# Altium footprint library PCB Library.PcbLib: 45 footprints (part 1 of 3)
Each footprint in its own frame and in the unit in brackets; x right, y up, seen from the top. Pads: shape width x height; smd on the part's side, far side on the other; paste and mask are expansions set on the pad; w line width, h text height; cw(c..) or ccw(c..) is an arc to the next point about the centre after c.
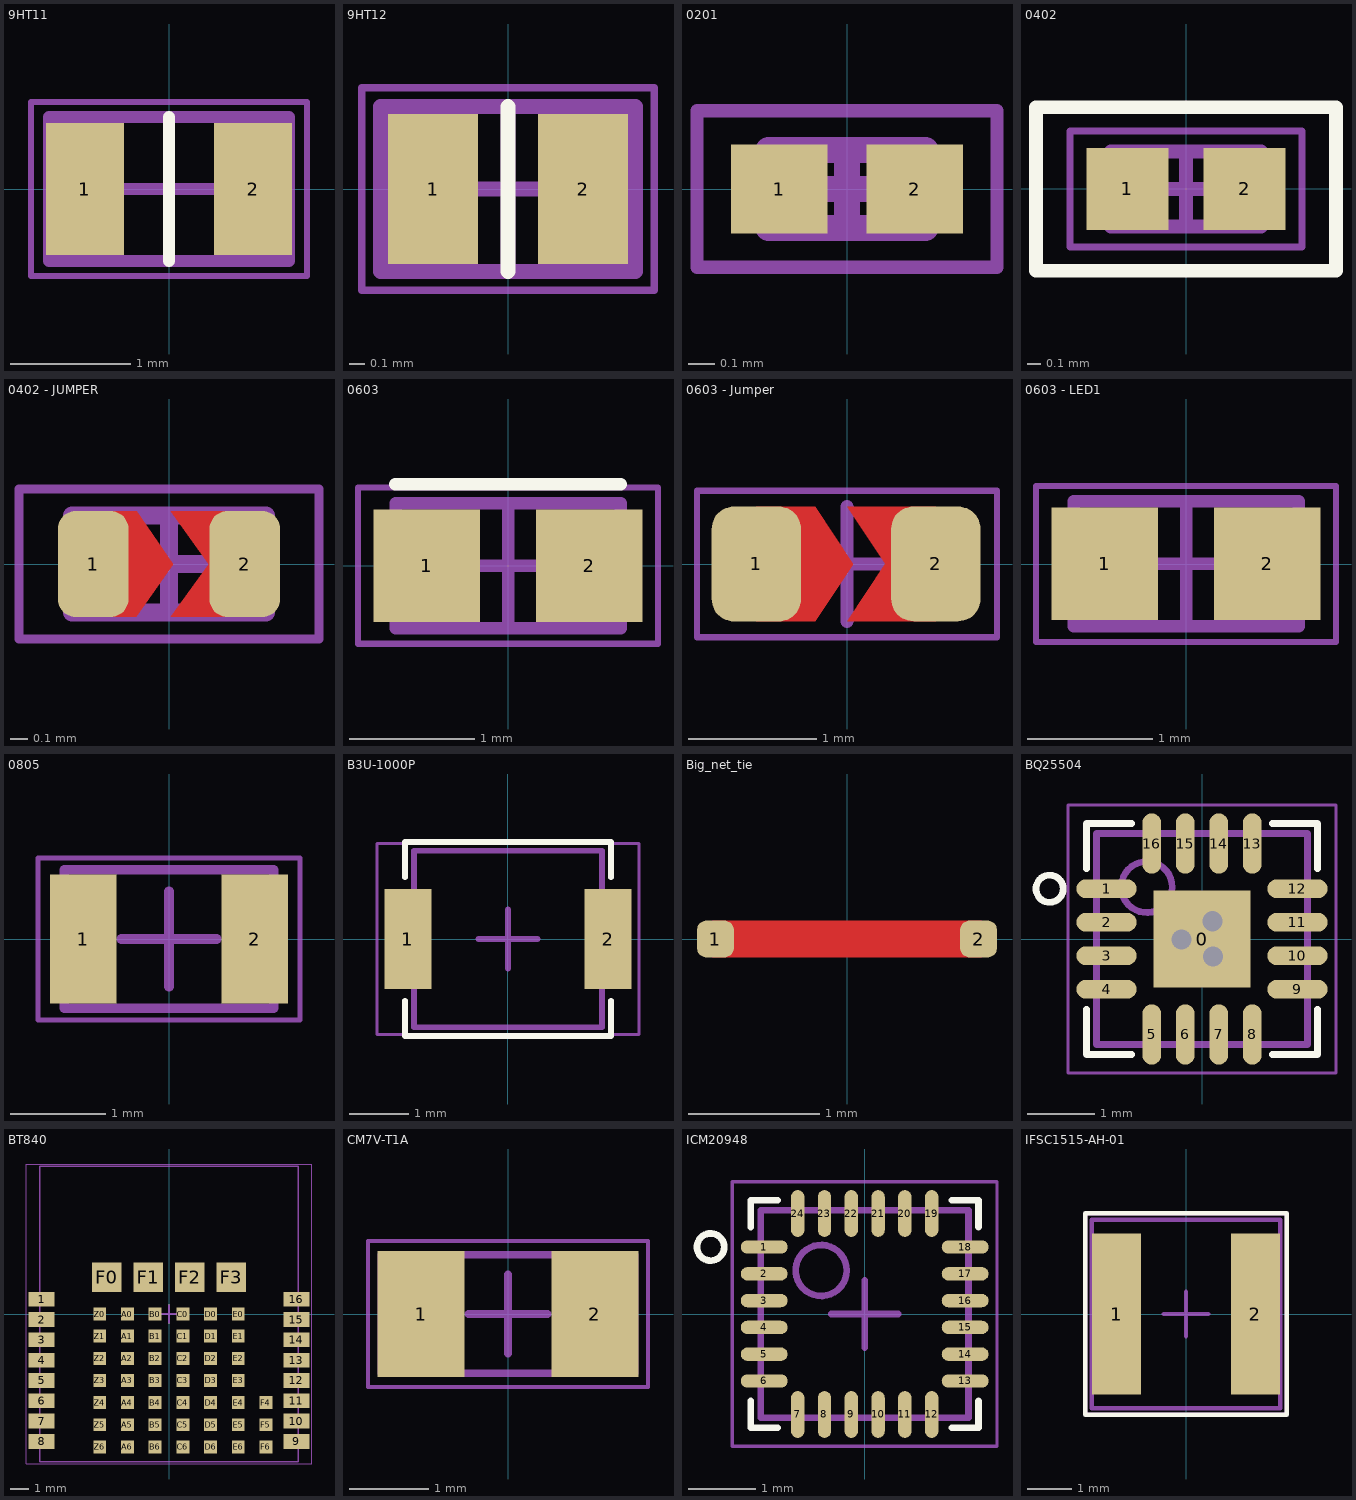
[diagram p0: the footprints below, top view; thin cyan lines are the x and y axes]

## 9HT11 [mm] "Qartz crystal 9HT11-32.768KDZY-T"
height 0.6
pads (2):
  rect 0.65x1.1 smd mask+0.05: 1(-0.7,0) 2(0.7,0)
Top Overlay:
  lines w0.1: 0,-0.6 0,0.6
Mechanical 13:
  lines w0.1: -1,-0.6 -1,0.6 1,0.6 1,-0.6 -1,-0.6
Mechanical 15:
  lines w0.05: -1.15,-0.725 -1.15,0.725 1.15,0.725 1.15,-0.725 -1.15,-0.725
  lines w0.1: -0.5,0 0.5,0 ; 0,-0.5 0,0.5
3D body: height 0.5, standoff 0, extent -1,-0.6 1,0.6

## 9HT12 [mm] "Qartz crystal"
height 0.5
pads (2):
  rect 0.6x1 smd mask+0.05: 1(-0.5,0) 2(0.5,0)
Top Overlay:
  lines w0.1: 0,-0.55 0,0.55
Mechanical 13:
  lines w0.1: -0.85,-0.55 0.85,-0.55 0.85,0.55 -0.85,0.55 -0.85,-0.55
Mechanical 15:
  lines w0.05: -0.975,-0.675 0.975,-0.675 0.975,0.675 -0.975,0.675 -0.975,-0.675
  lines w0.1: -0.5,0 0.5,0 ; 0,-0.5 0,0.5
3D body: height 0.5, standoff 0, extent -0.85,-0.55 0.85,0.55

## 0201 [mm] "Standard SMD component"
height 0.22
pads (2):
  rect 0.37x0.34 smd mask+0.05: 1(-0.26,0) 2(0.26,0)
Top Solder:
  rectangle: -0.5,-0.225 0.5,0.225
Mechanical 13:
  lines w0.1: -0.3,-0.15 0.3,-0.15 0.3,0.15 -0.3,0.15 -0.3,-0.15
Mechanical 15:
  lines w0.05: -0.575,-0.3 0.575,-0.3 0.575,0.3 -0.575,0.3 -0.575,-0.3
  lines w0.1: -0.15,0 0.15,0 ; 0,-0.15 0,0.15
3D body: height 0.22, standoff 0, extent 0.15,-0.15 0.3,0.15
3D body: height 0.22, standoff 0, extent -0.3,-0.15 -0.15,0.15
3D body: height 0.22, standoff 0, extent -0.15,-0.15 0.15,0.15

## 0402 [mm] "Standard SMD component"
height 0.55
pads (2):
  rect 0.6x0.6 smd mask+0.05: 1(-0.43,0) 2(0.43,0)
Top Overlay:
  lines w0.1: -1.1,-0.6 -0.675,-0.6 0,-0.6 1.1,-0.6 1.1,0.25 1.1,0.6 0.675,0.6 0,0.6 -1.1,0.6 -1.1,-0.25 -1.1,-0.6
Mechanical 13:
  lines w0.1: -0.55,-0.275 0.55,-0.275 0.55,0.275 -0.55,0.275 -0.55,-0.275
Mechanical 15:
  lines w0.05: -0.85,-0.425 0.85,-0.425 0.85,0.425 -0.85,0.425 -0.85,-0.425
  lines w0.1: -0.275,0 0.275,0 ; 0,-0.275 0,0.275
3D body: height 0.55, standoff 0, extent 0.3,-0.275 0.55,0.275
3D body: height 0.55, standoff 0, extent -0.55,-0.275 -0.3,0.275
3D body: height 0.55, standoff 0, extent -0.3,-0.275 0.3,0.275

## 0402 - JUMPER [mm] "Standard SMD component"
height 0.55
pads (2):
  rrect50% 0.4x0.6 smd mask+0.05: 1(-0.43,0) 2(0.43,0)
Top Layer:
  region: 0.5,-0.3 0.009,-0.3 0.225,0 0.009,0.3 0.5,0.3
  region: -0.375,0.3 -0.184,0.3 0.025,0 -0.184,-0.3 -0.375,-0.3
Top Solder:
  rectangle: -0.55,-0.35 0.55,0.35
Mechanical 13:
  lines w0.1: -0.55,-0.275 -0.55,0.275 0.55,0.275 0.55,-0.275 -0.55,-0.275
Mechanical 15:
  lines w0.05: -0.85,-0.425 -0.85,0.425 0.85,0.425 0.85,-0.425 -0.85,-0.425
  lines w0.1: -0.275,0 0.275,0 ; 0,-0.275 0,0.275
3D body: height 0.55, standoff 0, extent -0.3,-0.275 0.3,0.275
3D body: height 0.55, standoff 0, extent -0.55,-0.275 -0.3,0.275
3D body: height 0.55, standoff 0, extent 0.3,-0.275 0.55,0.275

## 0603 [mm] "Standard SMD component"
height 1
pads (2):
  rect 0.85x0.9 smd mask+0.05: 1(-0.65,0) 2(0.65,0)
Top Overlay:
  lines w0.1: -0.9,0.65 0.9,0.65
Mechanical 13:
  lines w0.1: -0.9,-0.5 0.9,-0.5 0.9,0.5 -0.9,0.5 -0.9,-0.5
Mechanical 15:
  lines w0.05: -1.2,-0.625 -1.2,0.625 1.2,0.625 1.2,-0.625 -1.2,-0.625
  lines w0.1: -0.5,0 0.5,0 ; 0,-0.5 0,0.5
3D body: height 1, standoff 0, extent 0.52,-0.5 0.9,0.5
3D body: height 1, standoff 0, extent -0.9,-0.5 -0.52,0.5
3D body: height 1, standoff 0, extent -0.52,-0.5 0.52,0.5

## 0603 - Jumper [mm] "Standard SMD component"
height 1
pads (2):
  rrect50% 0.7x0.9 smd mask+0.05: 1(-0.711,0) 2(0.696,0)
Top Layer:
  region: -0.711,0.45 -0.25,0.45 0.05,0 -0.25,-0.45 -0.711,-0.45
  region: 0.696,-0.45 0,-0.45 0.3,0 0,0.45 0.696,0.45
Top Solder:
  rectangle: -0.711,-0.5 0.696,0.5
Mechanical 15:
  lines w0.05: -1.175,-0.575 -1.175,0.575 1.175,0.575 1.175,-0.575 -1.175,-0.575
  lines w0.1: -0.475,0 0.475,0 ; 0,-0.45 0,0.45

## 0603 - LED1 [mm] "Standard SMD component"
height 1
pads (2):
  rect 0.85x0.9 smd mask+0.05: 1(-0.65,0) 2(0.65,0)
Mechanical 13:
  lines w0.1: -0.9,-0.5 -0.9,0.5 0.9,0.5 0.9,-0.5 -0.9,-0.5
Mechanical 15:
  lines w0.05: -1.2,-0.625 1.2,-0.625 1.2,0.625 -1.2,0.625 -1.2,-0.625
  lines w0.1: -0.5,0 0.5,0 ; 0,-0.5 0,0.5
3D body: height 1, standoff 0, extent -0.52,-0.5 0.52,0.5
3D body: height 1, standoff 0, extent -0.9,-0.5 -0.52,0.5
3D body: height 1, standoff 0, extent 0.52,-0.5 0.9,0.5

## 0805 [mm] "Standard SMD component"
height 1
pads (2):
  rect 0.7x1.35 smd mask+0.05: 1(-0.9,0) 2(0.9,0)
Mechanical 13:
  lines w0.1: -1.1,-0.725 -1.1,0.725 1.1,0.725 1.1,-0.725 -1.1,-0.725
Mechanical 15:
  lines w0.05: -1.375,-0.85 1.375,-0.85 1.375,0.85 -1.375,0.85 -1.375,-0.85
  lines w0.1: -0.5,0 0.5,0 ; 0,-0.5 0,0.5
3D body: height 1, standoff 0, extent -0.77,-0.725 0.77,0.725
3D body: height 1, standoff 0, extent -1.1,-0.725 -0.77,0.725
3D body: height 1, standoff 0, extent 0.77,-0.725 1.1,0.725

## B3U-1000P [mm] "Tact switch"
height 1.6
pads (2):
  rect 0.8x1.7 smd mask+0.05: 1(-1.7,0) 2(1.7,0)
Top Overlay:
  lines w0.1: -1.75,-1.05 -1.75,-1.65 1.75,-1.65 1.75,-1.05 ; -1.75,1.05 -1.75,1.65 1.75,1.65 1.75,1.05
Mechanical 13:
  lines w0.1: -1.6,-1.5 1.6,-1.5 1.6,1.5 -1.6,1.5 -1.6,-1.5
Mechanical 15:
  lines w0.05: -2.225,-1.625 2.225,-1.625 2.225,1.625 -2.225,1.625 -2.225,-1.625
  lines w0.1: -0.5,0 0.5,0 ; 0,-0.5 0,0.5
3D body: height 1.6, standoff 0, extent -1.6,-1.5 1.6,1.5

## Big_net_tie [mm]
pads (2):
  rrect50% 0.28x0.28 smd: 1(-1,0) 2(1,0)
Top Layer:
  lines w0.28: -1,0 1,0

## BQ25504 [mm] "Solar harvester"
height 1
pads (17):
  rect 1.45x1.45 smd mask+0.05: 0(0,0)
  oval 0.9x0.28 smd mask+0.05: 1(-1.425,0.75) 2(-1.425,0.25) 3(-1.425,-0.25) 4(-1.425,-0.75) 9(1.425,-0.75) 10(1.425,-0.25) 11(1.425,0.25) 12(1.425,0.75)
  oval 0.28x0.9 smd mask+0.05: 5(-0.75,-1.425) 6(-0.25,-1.425) 7(0.25,-1.425) 8(0.75,-1.425) 13(0.75,1.425) 14(0.25,1.425) 15(-0.25,1.425) 16(-0.75,1.425)
via -0.309,-0.009 diameter 0.6 hole 0.3
via 0.166,-0.259 diameter 0.6 hole 0.3
via 0.159,0.266 diameter 0.6 hole 0.3
Top Overlay:
  circle w0.1: c-2.275,0.75 r0.203
  lines w0.1: -1.725,-1.05 -1.725,-1.725 -1.05,-1.725 ; -1.725,1.05 -1.725,1.725 -1.05,1.725 ; 1.05,-1.725 1.725,-1.725 1.725,-1.05 ; 1.05,1.725 1.725,1.725 1.725,1.05
Mechanical 13:
  circle w0.1: c-0.825,0.775 r0.381
  lines w0.1: -1.575,-1.575 -1.575,1.575 1.575,1.575 1.575,-1.575 -1.575,-1.575
Mechanical 15:
  lines w0.05: -2,-2 -2,2 2,2 2,-2 -2,-2
  lines w0.1: -0.5,0 0.5,0 ; 0,-0.5 0,0.5
3D body: height 1, standoff 0, extent -1.575,-1.575 1.575,1.575

## BT840 [mm] "Bluetooth 5.0 module"
pads (65):
  rect 1.4x0.8 smd mask+0.05: 1(-6.9,0.8) 2(-6.9,-0.3) 3(-6.9,-1.4) 4(-6.9,-2.5) 5(-6.9,-3.6) 6(-6.9,-4.7) 7(-6.9,-5.8) 8(-6.9,-6.9) 9(6.9,-6.9) 10(6.9,-5.8) 11(6.9,-4.7) 12(6.9,-3.6) 13(6.9,-2.5) 14(6.9,-1.4) 15(6.9,-0.3) 16(6.9,0.8)
  rect 0.7x0.7 smd mask+0.05: A0(-2.25,0) A1(-2.25,-1.2) A2(-2.25,-2.4) A3(-2.25,-3.6) A4(-2.25,-4.8) A5(-2.25,-6) A6(-2.25,-7.2) B0(-0.75,0) B1(-0.75,-1.2) B2(-0.75,-2.4) B3(-0.75,-3.6) B4(-0.75,-4.8) B5(-0.75,-6) B6(-0.75,-7.2) C0(0.75,0) C1(0.75,-1.2) C2(0.75,-2.4) C3(0.75,-3.6) C4(0.75,-4.8) C5(0.75,-6) C6(0.75,-7.2) D0(2.25,0) D1(2.25,-1.2) D2(2.25,-2.4) D3(2.25,-3.6) D4(2.25,-4.8) D5(2.25,-6) D6(2.25,-7.2) E0(3.75,0) E1(3.75,-1.2) E2(3.75,-2.4) E3(3.75,-3.6) E4(3.75,-4.8) E5(3.75,-6) E6(3.75,-7.2) F4(5.25,-4.8) F5(5.25,-6) F6(5.25,-7.2) Z0(-3.75,0) Z1(-3.75,-1.2) Z2(-3.75,-2.4) Z3(-3.75,-3.6) Z4(-3.75,-4.8) Z5(-3.75,-6) Z6(-3.75,-7.2)
  rect 1.6x1.6 smd mask+0.05: F0(-3.375,2) F1(-1.125,2) F2(1.125,2) F3(3.375,2)
Mechanical 13:
  lines w0.1: -7,-8 -7,8 7,8 7,-8 -7,-8
Mechanical 15:
  lines w0.05: -7.725,-8.125 -7.725,8.125 7.725,8.125 7.725,-8.125 -7.725,-8.125
  lines w0.1: -0.5,0 0.5,0 ; 0,-0.5 0,0.5
3D body: height 1.9, standoff 0, extent -7,-8 7,8

## CM7V-T1A [mm] "Qartz crystal"
height 0.5
pads (2):
  rect 1.1x1.6 smd mask+0.05: 1(-1.1,0) 2(1.1,0)
Mechanical 13:
  lines w0.1: -1.6,-0.75 1.6,-0.75 1.6,0.75 -1.6,0.75 -1.6,-0.75
Mechanical 15:
  lines w0.05: -1.775,-0.925 -1.775,0.925 1.775,0.925 1.775,-0.925 -1.775,-0.925
  lines w0.1: -0.5,0 0.5,0 ; 0,-0.5 0,0.5
3D body: height 0.5, standoff 0, extent -1.6,-0.75 1.6,0.75

## ICM20948 [mm] "9-DOF IMU"
height 1.05
pads (24):
  oval 0.7x0.2 smd mask+0.05: 1(-1.5,1) 2(-1.5,0.6) 3(-1.5,0.2) 4(-1.5,-0.2) 5(-1.5,-0.6) 6(-1.5,-1) 13(1.5,-1) 14(1.5,-0.6) 15(1.5,-0.2) 16(1.5,0.2) 17(1.5,0.6) 18(1.5,1)
  oval 0.2x0.7 smd mask+0.05: 7(-1,-1.5) 8(-0.6,-1.5) 9(-0.2,-1.5) 10(0.2,-1.5) 11(0.6,-1.5) 12(1,-1.5) 19(1,1.5) 20(0.6,1.5) 21(0.2,1.5) 22(-0.2,1.5) 23(-0.6,1.5) 24(-1,1.5)
Top Overlay:
  circle w0.1: c-2.3,1 r0.203
  lines w0.1: -1.7,-1.3 -1.7,-1.7 -1.3,-1.7 ; -1.7,1.3 -1.7,1.7 -1.3,1.7 ; 1.3,-1.7 1.7,-1.7 1.7,-1.3 ; 1.3,1.7 1.7,1.7 1.7,1.3
Mechanical 13:
  circle w0.1: c-0.65,0.65 r0.381
  lines w0.1: -1.55,-1.55 -1.55,1.55 1.55,1.55 1.55,-1.55 -1.55,-1.55
Mechanical 15:
  lines w0.05: -1.975,-1.975 -1.975,1.975 1.975,1.975 1.975,-1.975 -1.975,-1.975
  lines w0.1: -0.5,0 0.5,0 ; 0,-0.5 0,0.5
3D body: height 1.05, standoff 0, extent -1.55,-1.6 1.55,1.5

## IFSC1515-AH-01 [mm] "Inductor"
height 1.9
pads (2):
  rect 1.1x3.6 smd mask+0.05: 1(-1.55,0) 2(1.55,0)
Top Overlay:
  lines w0.1: -2.25,-2.25 2.25,-2.25 2.25,2.25 -2.25,2.25 -2.25,-2.25
Mechanical 13:
  lines w0.1: -2.1,-2.1 2.1,-2.1 2.1,2.1 -2.1,2.1 -2.1,-2.1
Mechanical 15:
  lines w0.05: -2.225,-2.225 2.225,-2.225 2.225,2.225 -2.225,2.225 -2.225,-2.225
  lines w0.1: -0.5,0 0.5,0 ; 0,-0.5 0,0.5
3D body: height 1.9, standoff 0, extent -2.1,-2.1 2.1,2.1